# EAGLE library part DS3231M (library koch)
Maxim MAX1811 USB li-ion battery charger http://www.ladyada.net/library/eagle
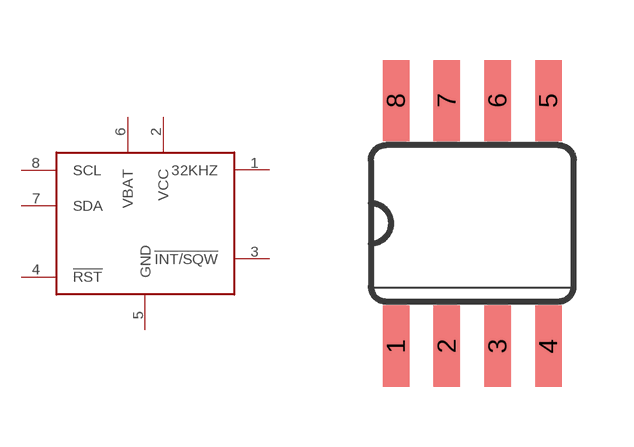
[diagram p10: symbol with the pads of SO08; footprint SO08]

Designator prefix -

## DS3231MSO8  [SO08]
1  32KHZ
2  VCC
3  !INT/SQW
4  !RST
5  GND
6  VBAT
7  SDA
8  SCL

## Footprint SO08 (pad centres in mm)
smd 0.66 x 2.032: 1 -1.905,-3.073; 2 -0.635,-3.073; 3 0.635,-3.073; 4 1.905,-3.073; 5 1.905,3.073; 6 0.635,3.073; 7 -0.635,3.073; 8 -1.905,3.073